# Altium footprint library SOD.PcbLib: 4 footprints
Each footprint in its own frame and in the unit in brackets; x right, y up, seen from the top. Pads: shape width x height; smd on the part's side, far side on the other; paste and mask are expansions set on the pad; w line width, h text height; cw(c..) or ccw(c..) is an arc to the next point about the centre after c.
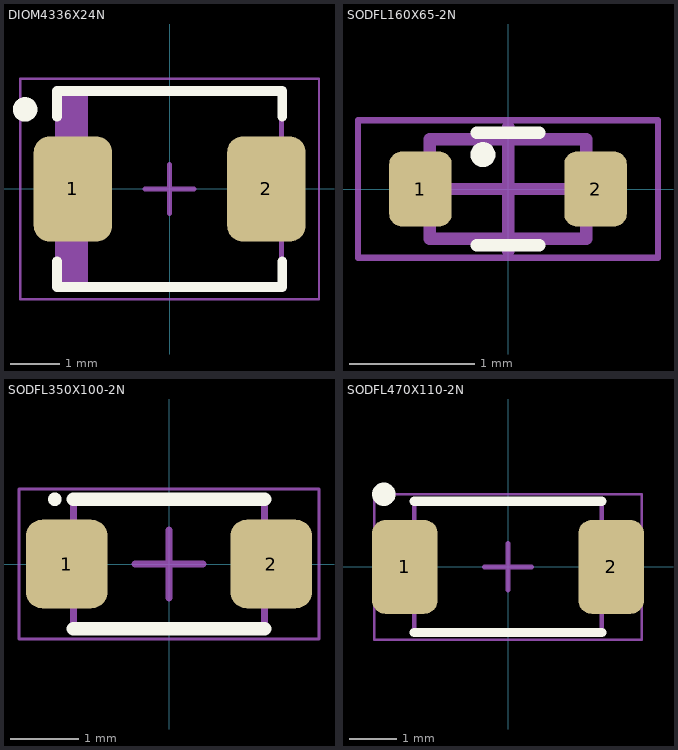
[diagram p0: the footprints below, top view; thin cyan lines are the x and y axes]

## DIOM4336X24N [mm] "Molded Diode, 2-Leads, Body 4,31x3,62mm, DO214AA_SMB"
height 2.44
pads (2):
  rrect40% 1.6x2.15 smd: 1(-1.975,0) 2(1.975,0)
Top Overlay:
  circle w0.25: c-2.95,1.625 r0.125
  lines w0.2: -2.3,-1.475 -2.3,-2 2.3,-2 2.3,-1.475 ; -2.3,1.475 -2.3,2 2.3,2 2.3,1.475
Top Assembly:
  rectangle: -2.285,-1.97 -1.67,1.97
  lines w0.1: -2.285,-1.97 2.285,-1.97 2.285,1.97 -2.285,1.97 -2.285,-1.97
Mechanical 15:
  lines w0.05: -3.05,-2.25 3.05,-2.25 3.05,2.25 -3.05,2.25 -3.05,-2.25
  lines w0.1: -0.5,0 0.5,0 ; 0,-0.5 0,0.5
3D body "DIOM4336X24N.step": height 2.44, standoff 0, extent -2.505,-1.97 2.505,1.97

## SODFL160X65-2N [mm] "SODFL, 2-Leads, Body 0,75x1,60mm, IPC Medium Density"
height 0.65
pads (2):
  rrect40% 0.5x0.6 smd: 1(-0.7,0) 2(0.7,0)
Top Overlay:
  circle w0.1: c-0.2,0.275 r0.05
  lines w0.1: -0.25,-0.45 0.25,-0.45 ; -0.25,0.45 0.25,0.45
Top Assembly:
  lines w0.1: -0.625,-0.4 0.625,-0.4 0.625,0.4 -0.625,0.4 -0.625,-0.4
Mechanical 15:
  lines w0.05: -1.2,-0.55 1.2,-0.55 1.2,0.55 -1.2,0.55 -1.2,-0.55
  lines w0.1: -0.5,0 0.5,0 ; 0,-0.5 0,0.5
3D body "SODFL160X65-2N.step": height 0.65, standoff 0, extent -0.8,-0.4 0.8,0.4

## SODFL350X100-2N [mm] "SODFL, 2-Leads, Body 1,75x3,50mm, IPC Medium Density"
height 1
pads (2):
  rrect40% 1.2x1.3 smd: 1(-1.5,0) 2(1.5,0)
Top Overlay:
  circle w0.1: c-1.675,0.95 r0.05
  lines w0.2: -1.4,-0.95 1.4,-0.95 ; -1.4,0.95 1.4,0.95
Top Assembly:
  lines w0.1: -1.4,-0.95 1.4,-0.95 1.4,0.95 -1.4,0.95 -1.4,-0.95
Mechanical 15:
  lines w0.05: -2.2,-1.1 2.2,-1.1 2.2,1.1 -2.2,1.1 -2.2,-1.1
  lines w0.1: -0.5,0 0.5,0 ; 0,-0.5 0,0.5
3D body "User Library-SOD123W.step": height 1.1, standoff -0.01, extent -2,-0.95 2,0.95

## SODFL470X110-2N [mm] "SODFL, 2-Leads, Body 2,55x4,70mm, IPC Medium Density"
height 1.1
pads (2):
  rrect40% 1.4x2 smd: 1(-2.2,0) 2(2.2,0)
Top Overlay:
  circle w0.25: c-2.65,1.55 r0.125
  lines w0.2: -2,-1.4 2,-1.4 ; -2,1.4 2,1.4
Top Assembly:
  lines w0.1: -2,-1.4 2,-1.4 2,1.4 -2,1.4 -2,-1.4
Mechanical 15:
  lines w0.05: -2.85,-1.55 2.85,-1.55 2.85,1.55 -2.85,1.55 -2.85,-1.55
  lines w0.1: -0.5,0 0.5,0 ; 0,-0.5 0,0.5
3D body "User Library-SOD128.step": height 1.1, standoff -0.01, extent -2.5,-1.35 2.5,1.35